# EAGLE library part 6180XX25123_61800925123 (library WR-DSUB)
WR-DSUB Female PCB Connector General Information Operating Temperature -55 °C up to +105 °C Gender Female Type Straight Insulator Material PBT Insulator Flammability Rating UL94 V-0 Insulator Color White Contact Material Copper Alloy Contact Plating Gold Contact Type Stamped Shielding Material Steel Shielding Plating Tin Electrical Properties Working Voltage 250 V (AC) Withstanding Voltage 1000 V (AC) Contact Resistance 30 mΩ <https://www.we-online.com/components/media/o60801v209%20Family_I-O_DSUB_PCB_Female_wo-screw_6180xx25123_pf2.jpg> Details see: www.we-online.com/components/products/DSUB_FEMALE_PCB_CONNECTOR_6180XX25123 <www.we-online.com/catalog/DSUB_FEMALE_PCB_CONNECTOR_6180XX25123/?utm_source=eagle_model&utm_medium=description_link&utm_campaign=eisos_eagle> Updated by Ella Wu 2025-07-25 2025 (C) Würth Elektronik
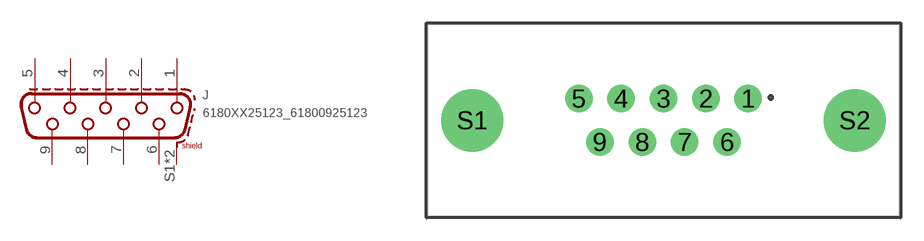
[diagram p37: symbol with the pads of 61800925123; footprint 61800925123]

Designator prefix J

## 6180XX25123_61800925123 (DATASHEET-URL: https://www.we-online.com/redexpert/spec/61800925123?ae; GENDER: Female; OPERATING-TEMPERATURE: -55 °C up to +105 °C; PART-NUMBER: 61800925123; PINS: 9; TYPE: Straight; VALUE: 61800925123; WORKING-VOLTAGE: 250VAC)  [61800925123]
1  1
2  2
3  3
4  4
5  5
6  6
7  7
8  8
9  9
S1  SHIELD
S2  SHIELD

## Footprint 61800925123 (pad centres in mm)
WR-DSUB Female PCB Connector, 9 Pins
drill 1.2: 1 5.54,1.42; 2 2.77,1.42; 3 0,1.42; 4 -2.77,1.42; 5 -5.54,1.42; 6 4.155,-1.42; 7 1.385,-1.42; 8 -1.385,-1.42; 9 -4.155,-1.42
drill 3.05: S1 -12.5,0; S2 12.5,0